# EAGLE library part BQ51013BRHLR (library BQ51013BRHLR)
WPC 1.1 Compatible Fully Integrated Wireless Power Receiver IC Source: Datasheet <http://www.ti.com/lit/ds/symlink/bq51013b.pdf>
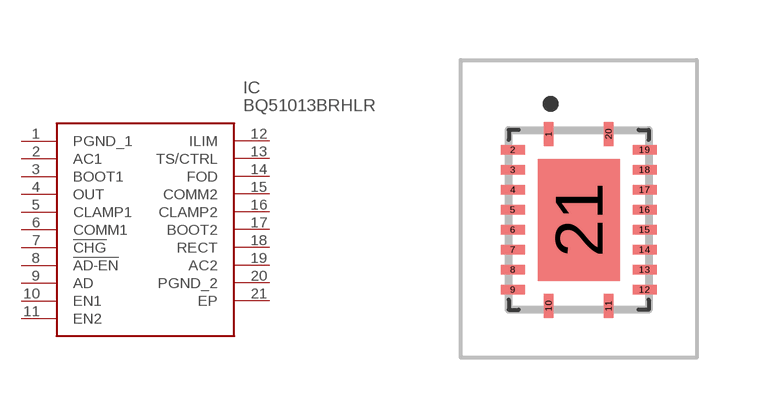
[diagram p0: symbol with the pads of BQ51050BRHLR; footprint BQ51050BRHLR]

Designator prefix IC

## BQ51013BRHLR (Description: WPC 1.1 Compatible Fully Integrated Wireless Power Receiver IC; Height: mm; Manufacturer_Name: Texas Instruments; Manufacturer_Part_Number: BQ51013BRHLR; Mouser_Part_Number: 595-BQ51013BRHLR; Mouser_Price-Stock: https://www.mouser.co.uk/ProductDetail/Texas-Instruments/BQ51013BRHLR?qs=y1vSg4rOnUJlN8ZPg6D5Pw%3D%3D)  [BQ51050BRHLR]
1  PGND_1
2  AC1
3  BOOT1
4  OUT
5  CLAMP1
6  COMM1
7  !CHG
8  !AD-EN
9  AD
10  EN1
11  EN2
12  ILIM
13  TS/CTRL
14  FOD
15  COMM2
16  CLAMP2
17  BOOT2
18  RECT
19  AC2
20  PGND_2
21  EP

## Footprint BQ51050BRHLR (pad centres in mm)
RHL0020A
smd 0.24 x 0.6: 1 -0.75,1.775; 10 -0.75,-2.525; 11 0.75,-2.525; 20 0.75,1.775
smd 0.6 x 0.24: 2 -1.65,1.375; 3 -1.65,0.875; 4 -1.65,0.375; 5 -1.65,-0.125; 6 -1.65,-0.625; 7 -1.65,-1.125; 8 -1.65,-1.625; 9 -1.65,-2.125; 12 1.65,-2.125; 13 1.65,-1.625; 14 1.65,-1.125; 15 1.65,-0.625; 16 1.65,-0.125; 17 1.65,0.375; 18 1.65,0.875; 19 1.65,1.375
smd 2.05 x 3.05: 21 0,-0.375